# Altium footprint library SMD Discrete Semiconductors.PcbLib: 9 footprints
Each footprint in its own frame and in the unit in brackets; x right, y up, seen from the top. Pads: shape width x height; smd on the part's side, far side on the other; paste and mask are expansions set on the pad; w line width, h text height; cw(c..) or ccw(c..) is an arc to the next point about the centre after c.
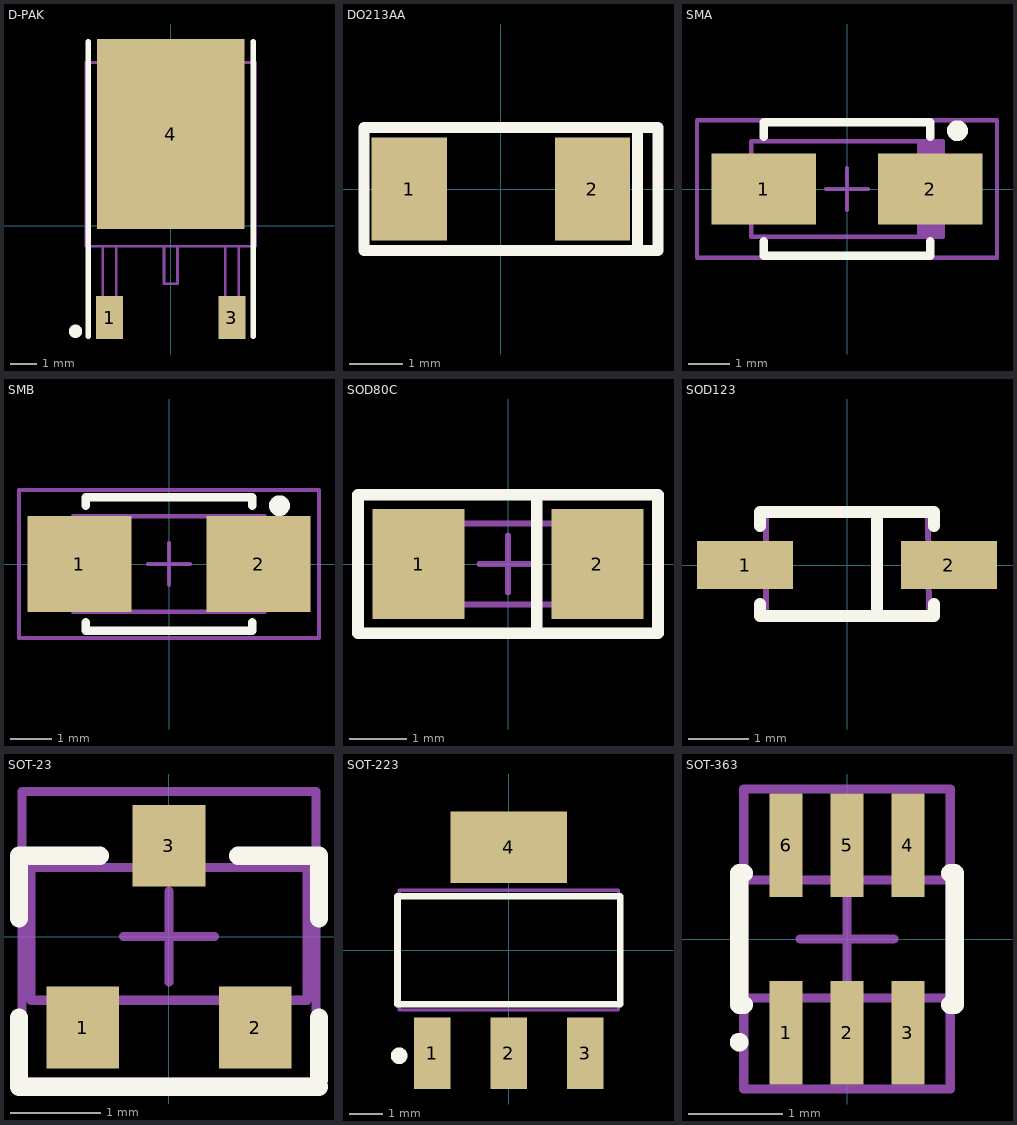
[diagram p0: the footprints below, top view; thin cyan lines are the x and y axes]

## D-PAK [mm] "D-PAK/TO-252-AA; 3 Leads (1 Cropped); Body 10.4 (inc. leads) x 6.7 mm (LxW max)"
height 2.38
pads (3):
  rect 1x1.6 smd: 1(-2.285,-3.425) 3(2.285,-3.425)
  rect 5.5x7.1 smd: 4(0,3.425)
Top Overlay:
  circle w0.25: c-3.554,-3.937 r0.125
  lines w0.2: -3.085,-4.125 -3.085,6.875 ; 3.085,-4.125 3.085,6.875
Mechanical 13:
  lines w0.1: -2.54,-0.762 -2.54,-3.556 -2.032,-3.556 -2.032,-0.762 ; -2.159,6.096 -2.159,6.604 2.159,6.604 2.159,6.096 ; -0.254,-0.762 -0.254,-2.159 0.254,-2.159 0.254,-0.762 ; 2.032,-0.762 2.032,-3.556 2.54,-3.556 2.54,-0.762 ; -3.175,-0.762 -3.175,6.096 3.175,6.096 3.175,-0.762 -3.175,-0.762
3D body "D-PAK.step": height 2.3, standoff 0, extent -3.246,-3.472 3.247,6.028

## DO213AA [mil] "DO213AA, 2 Leads; Body 5.08 x 2.5 mm, (LxW)"
height 53.15
pads (2):
  rect 55x75 smd: 1(-67,0) 2(67,0)
Top Overlay:
  lines w8: 100,-45 100,45 ; -100,-45 115,-45 115,45 -100,45 -100,-45
Mechanical 13:
  lines w5: -100,-45 -100,45 100,45 100,-45 -100,-45
3D body "DO-213AA -  DIODE MELF.step": height 55.53, standoff -3.53, extent -63.9,-29.53 73.89,29.52
3D body: height 36.42, standoff -40.55, extent 5,60 5,60

## SMA [mm] "SMA/TO-214AC, Molded Diode, 2-Leads, Body 4,3x2,6mm, IPC Low Density"
height 2.62
pads (2):
  rect 2.5x1.7 smd: 1(-2,0) 2(2,0)
Top Overlay:
  circle w0.25: c2.65,1.4 r0.125
  lines w0.2: -2,-1.25 -2,-1.6 2,-1.6 2,-1.25 ; -2,1.25 -2,1.6 2,1.6 2,1.25
Mechanical 13:
  rectangle: 1.681,-1.145 2.3,1.145
  lines w0.1: -2.3,-1.145 2.3,-1.145 2.3,1.145 -2.3,1.145 -2.3,-1.145
Mechanical 15:
  lines w0.1: -0.5,0 0.5,0 ; 0,-0.5 0,0.5 ; -3.6,-1.65 3.6,-1.65 3.6,1.65 -3.6,1.65 -3.6,-1.65
3D body "SMA.STEP": height 2.35, standoff -0.05, extent -2.6,-1.375 2.6,1.375

## SMB [mm] "SMB, Molded Diode, 2-Leads, Body 4,5x3.3mm, IPC Low Density"
height 2.62
pads (2):
  rect 2.5x2.3 smd: 1(-2.15,0) 2(2.15,0)
Top Overlay:
  circle w0.25: c2.65,1.4 r0.125
  lines w0.2: -2,-1.397 -2,-1.6 2,-1.6 2,-1.397 ; -2,1.397 -2,1.6 2,1.6 2,1.397
Mechanical 13:
  rectangle: 1.681,-1.145 2.3,1.145
  lines w0.1: -2.3,-1.145 -2.3,1.145 2.3,1.145 2.3,-1.145 -2.3,-1.145
Mechanical 15:
  lines w0.1: -0.5,0 0.5,0 ; 0,-0.5 0,0.5 ; -3.6,-1.778 -3.6,1.778 3.6,1.778 3.6,-1.778 -3.6,-1.778
3D body "SMB.STEP": height 2.4, standoff 0, extent -2.6,-1.8 2.6,1.8

## SOD80C [mm] "MELF Resistor, 2-Leads, Body 3,5x1,3mm, IPC High Density"
height 1.4
pads (2):
  rect 1.6x1.9 smd: 1(-1.55,0) 2(1.55,0)
Top Overlay:
  lines w0.2: 0.5,-1.2 0.5,1.2 ; -2.6,-1.2 2.6,-1.2 2.6,1.2 -2.6,1.2 -2.6,-1.2
Mechanical 13:
  lines w0.1: -1.8,-0.7 -1.8,0.7 1.8,0.7 1.8,-0.7 -1.8,-0.7
Mechanical 15:
  lines w0.1: -0.5,0 0.5,0 ; 0,-0.5 0,0.5 ; -2.6,-1.2 -2.6,1.2 2.6,1.2 2.6,-1.2 -2.6,-1.2
3D body "MiniMelf-2.step": height 1.47, standoff -0.13, extent -1.82,-0.8 1.88,0.8
3D body "SOD80C MiniMelf-2.step": height 1.52, standoff -0.08, extent -1.82,-0.673 1.88,0.927

## SOD123 [mm] "SOD-123; 2 Leads; Body 2.7 x 1.6 mm, (LxW)"
height 1.35
pads (2):
  rect 1.6x0.8 smd: 1(-1.7,0) 2(1.7,0)
Top Overlay:
  lines w0.2: -1.45,-0.65 -1.45,-0.85 1.45,-0.85 1.45,-0.65 ; -1.45,0.65 -1.45,0.889 1.45,0.889 1.45,0.65 ; 0.5,-0.85 0.5,0.85
Mechanical 13:
  lines w0.1: 0.508,-0.85 0.508,0.85 ; 1.35,-0.85 -1.35,-0.85 -1.35,0.85 1.35,0.85 1.37,-0.85
3D body "SOD123 SOD3716X14.step": height 1.27, standoff -0.08, extent -1.85,-0.775 1.85,0.775
3D body: height 0.92, standoff -1.03, extent -0.381,-0.064 -0.381,-0.064

## SOT-23 [mm] "SOT23, 3-Leads, Body 3,0x2,6mm (max), Pitch 0,95mm, IPC High Density"
height 1.12
pads (3):
  rect 0.8x0.9 smd: 1(-0.95,-1) 2(0.95,-1) 3(0,1)
Top Overlay:
  lines w0.2: -1.651,-1.651 -1.651,-0.889 ; -1.651,0.203 -1.651,0.889 ; 1.651,-1.575 1.651,-0.889
  lines w0.203: -1.651,-1.651 1.651,-1.651 ; -1.651,0.889 -0.762,0.889 ; 0.762,0.889 1.651,0.889 1.651,0.203
Mechanical 13:
  lines w0.1: -1.52,0.7 -1.52,-0.7 1.52,-0.7 1.52,0.7
  lines w0.102: -1.524,0.762 1.524,0.762
Mechanical 15:
  lines w0.1: -0.5,0 0.5,0 ; 0,-0.5 0,0.5 ; -1.62,-1.6 -1.62,1.6 1.62,1.6 1.62,-1.6 -1.62,-1.6
3D body "sot-23-3-nxp.STEP": height 1.42, standoff -0.08, extent -1.43,-1.16 1.47,1.16

## SOT-223 [mm] "SOT-223/SC-73; 4 Leads; Body 6.7 x 7.3 mm, inc. leads (LxW max)"
height 1.8
pads (4):
  rect 1.1x2.15 smd: 1(-2.3,-3.1) 2(0,-3.1) 3(2.3,-3.1)
  rect 3.5x2.15 smd: 4(0,3.1)
Top Overlay:
  circle w0.25: c-3.3,-3.175 r0.125
  lines w0.2: -3.35,-1.625 3.35,-1.625 3.35,1.625 -3.35,1.625 -3.35,-1.625
Mechanical 13:
  lines w0.1: -3.3,-1.8 -3.3,1.8 3.3,1.8 3.3,-1.8 -3.3,-1.8
3D body "SOT-223.STEP": height 1.75, standoff -0.05, extent -3.25,-3.516 3.25,3.5
3D body "SOT-223.STEP": height 1.72, standoff -0.08, extent -3.25,-3.381 3.25,3.635

## SOT-363 [mm] "SOT-363/SC-88; 6 Leads; Body 2.2 x 2.2 mm, inc. leads (LxW max)"
height 1.1
pads (6):
  rect 0.35x1.1 smd: 1(-0.65,-1) 2(0,-1) 3(0.65,-1) 4(0.65,1) 5(0,1) 6(-0.65,1)
Top Overlay:
  circle w0.1: c-1.15,-1.1 r0.05
  lines w0.2: -1.1,-0.7 -1.15,-0.7 -1.15,0.7 -1.1,0.7 ; 1.1,-0.7 1.15,-0.7 1.15,0.7 1.1,0.7
Mechanical 13:
  lines w0.1: -1.1,-0.63 1.1,-0.63 1.1,0.63 -1.1,0.63 -1.1,-0.63
Mechanical 15:
  lines w0.1: -0.5,0 0.5,0 ; 0,-0.5 0,0.5 ; -1.1,-1.6 -1.1,1.6 1.1,1.6 1.1,-1.6 -1.1,-1.6
3D body "SOT-363.STEP": height 0.97, standoff -0.08, extent -1.1,-1.058 1.1,1.058